# Altium footprint library Altium-RECT.PcbLib: 24 footprints (part 2 of 2)
Each footprint in its own frame and in the unit in brackets; x right, y up, seen from the top. Pads: shape width x height; smd on the part's side, far side on the other; paste and mask are expansions set on the pad; w line width, h text height; cw(c..) or ccw(c..) is an arc to the next point about the centre after c.
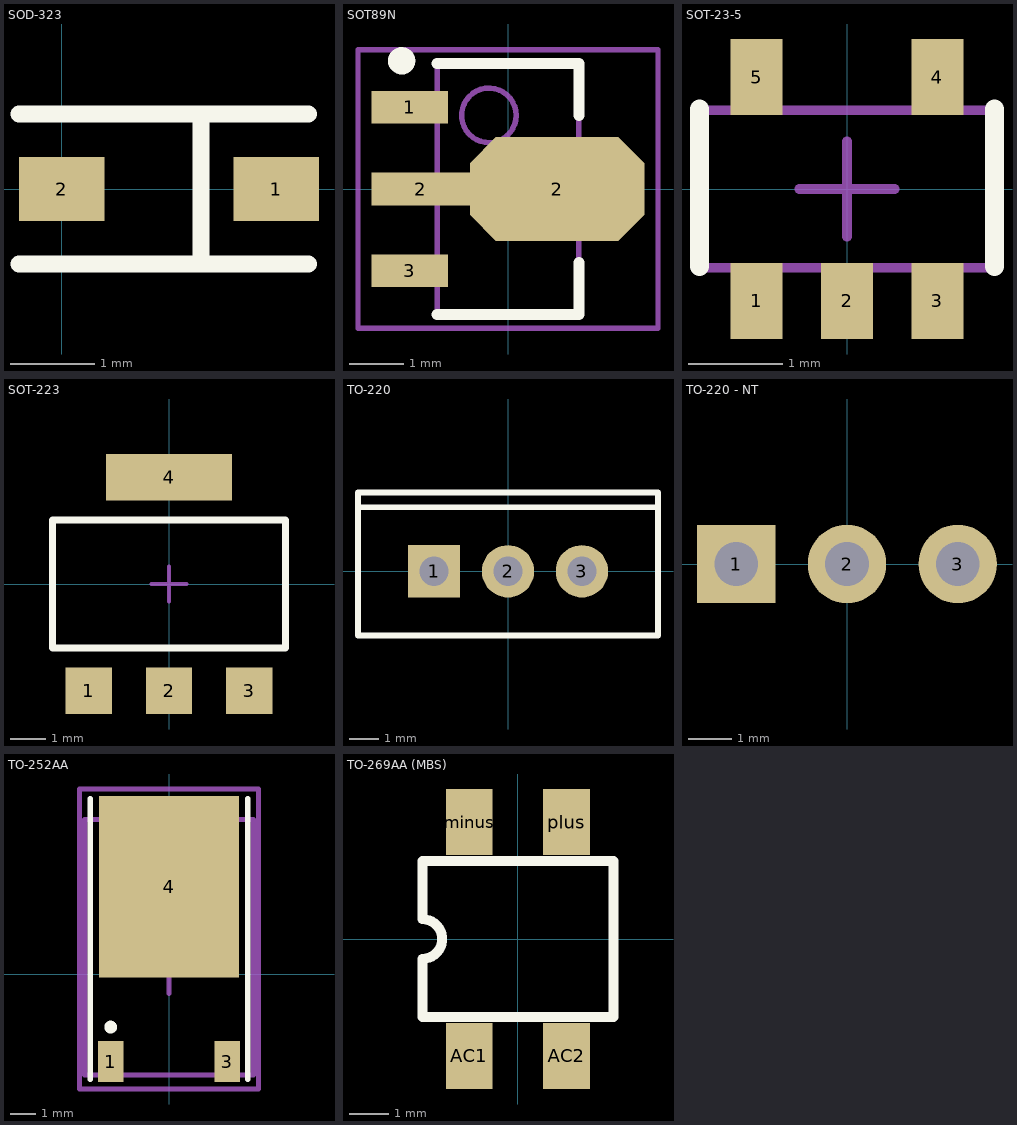
[diagram p1: the footprints below, top view; thin cyan lines are the x and y axes]

## SOD-323 [mil]
height 41.34
pads (2):
  rect 40x30 smd: 1(100,0) 2(0,0)
Top Overlay:
  lines w8: -20,-35 115,-35 ; -20,35 115,35 ; 65,-35 65,35
3D body: height 41.34, standoff 0, extent 10,-30 90,30

## SOT89N [mm] "SOT89, 3-Leads, Body 4.5x2.4 mm, Pitch 1.5mm, Lead Span 4.1mm, IPC Medium Density"
height 1.6
pads (4):
  rect 1.4x0.6 smd: 1(-1.8,1.5) 3(-1.8,-1.5)
  rect 1.8x0.6 smd: 2(-1.6,0)
  oct 3.2x1.9 smd: 2(0.9,0)
Top Overlay:
  circle w0.25: c-1.95,2.35 r0.125
  lines w0.2: -1.3,-2.3 1.3,-2.3 1.3,-1.35 ; -1.3,2.3 1.3,2.3 1.3,1.35
Mechanical 13:
  circle w0.1: c-0.35,1.35 r0.5
  lines w0.1: -1.3,-2.3 -1.3,2.3 1.3,2.3 1.3,-2.3 -1.3,-2.3
Mechanical 15:
  lines w0.1: -0.5,0 0.5,0 ; 0,-0.5 0,0.5 ; -2.75,-2.55 -2.75,2.55 2.75,2.55 2.75,-2.55 -2.75,-2.55
3D body: height 1.55, standoff 0, extent -2,-2.25 2,2.25

## SOT-23-5 [mil] "http://www.nxp.com/acrobat_download/packages/SOT753.pdf"
height 43.31
pads (5):
  rect 22x32 smd mask+4: 1(-38,-47) 2(0,-47) 3(38,-47) 4(38,47) 5(-38,47)
Top Overlay:
  lines w8: -62.01,-32.48 -62.01,33.52 ; 62.01,-32.48 62.01,33.52
Mechanical 15:
  lines w4: -20,0 20,0 ; 0,-20 0,20 ; -61,-33 -61,33 61,33 61,-33 -61,-33
3D body: height 39.37, standoff 0, extent -57.09,-54.13 57.09,54.13

## SOT-223 [mil]
height 70.87
pads (4):
  rect 52x52 smd mask+4: 1(-90,-120) 2(0,-120) 3(90,-120)
  rect 142x52 smd mask+4: 4(0,120)
Top Overlay:
  lines w8: -131,-72 -131,72 131,72 131,-72 -131,-72
Mechanical 13:
  lines w3.94: -131,-72 131,-72 131,72 -131,72 -131,-72
Mechanical 15:
  lines w4: -20,0 20,0 ; 0,-20 0,20
3D body: height 64.96, standoff 0, extent -127.95,-137.8 127.95,137.8

## TO-220 [mm] "TO, Thru-Hole, Vertical, Heatsink Mounted; 3 In-Line Leads; Pitch 2.54 mm"
height 19.7
pads (3):
  rect 1.8x1.8 hole 1: 1(-2.54,0)
  round 1.8 hole 1: 2(0,0) 3(2.54,0)
Top Overlay:
  lines w0.2: -5.15,2.2 5.15,2.2 ; -5.15,-2.2 5.15,-2.2 5.15,2.7 -5.15,2.7 -5.15,-2.2

## TO-220 - NT [mm] "TO, Thru-Hole, Vertical, Heatsink Mounted; 3 In-Line Leads; Pitch 2.54 mm"
height 19.7
pads (3):
  rect 1.8x1.8 hole 1: 1(-2.54,0)
  round 1.8 hole 1: 2(0,0) 3(2.54,0)

## TO-252AA [mm] "D-PAK/TO-252-AA; 3 Leads (1 Cropped); Body 10.4 (inc. leads) x 6.7 mm (LxW max)"
height 2.38
pads (3):
  rect 1x1.6 smd: 1(-2.285,-3.425) 3(2.285,-3.425)
  rect 5.5x7.1 smd: 4(0,3.425)
Top Overlay:
  circle w0.25: c-2.285,-2.075 r0.125
  lines w0.2: -3.085,-4.125 -3.085,6.875 ; 3.085,-4.125 3.085,6.875
Mechanical 13:
  lines w0.2: -3.3,-3.95 3.3,-3.95 3.3,6.05 -3.3,6.05 -3.3,-3.95
Mechanical 15:
  lines w0.2: -0.75,0 0.75,0 ; 0,-0.75 0,0.75 ; -3.5,-4.5 -3.5,7.25 3.5,7.25 3.5,-4.5 -3.5,-4.5
3D body: height 2.35, standoff 0, extent -3.3,-3.95 3.3,6.05

## TO-269AA (MBS) [mm]
pads (4):
  rect 1.2x1.7 smd: AC1(-1.25,-3) AC2(1.25,-3) minus(-1.25,3) plus(1.25,3)
Top Overlay:
  lines w0.254: -2.45,-2 -2.45,-0.508 ccw(c-2.45,0) -2.45,0.508 -2.45,2 2.45,2 2.45,-2 -2.45,-2
3D body: height 2.7, standoff 0, extent -2.5,-2.1 2.5,2.1